# EAGLE library part XS1-L01A-TQ128 (library xmos)
XCORE Processor
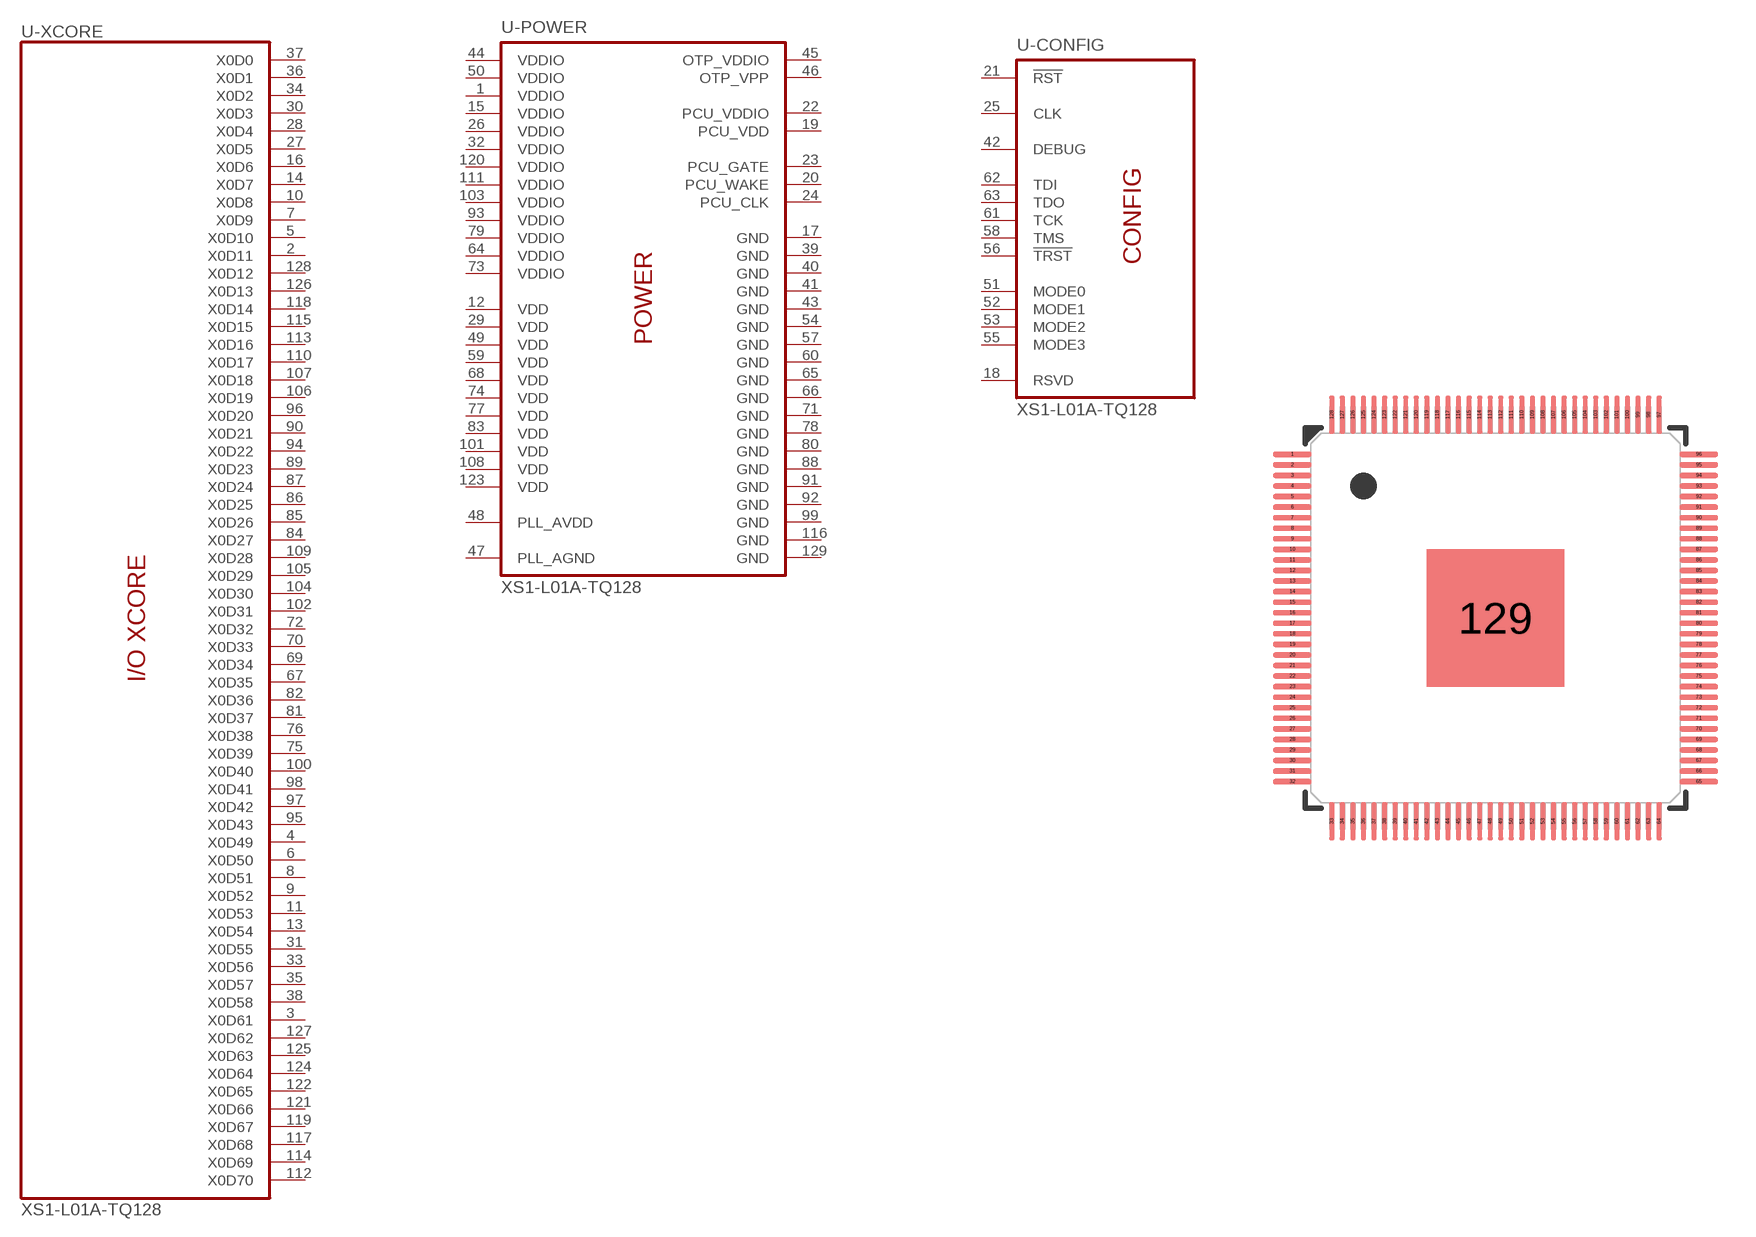
[diagram p3: symbol with the pads of TQFP128; footprint TQFP128]

Designator prefix U; gates -CONFIG=XS1-L01A-TQ128-CONFIG -POWER=XS1-L01A-TQ128-POWER -XCORE=XS1-L01A-TQ128-XCORE-IO

## XS1-L01A-TQ128  [TQFP128]
1  -POWER:VDDIO  pas
2  -XCORE:X0D11  pas
3  -XCORE:X0D61  pas
4  -XCORE:X0D49  pas
5  -XCORE:X0D10  pas
6  -XCORE:X0D50  pas
7  -XCORE:X0D9  pas
8  -XCORE:X0D51  pas
9  -XCORE:X0D52  pas
10  -XCORE:X0D8  pas
11  -XCORE:X0D53  pas
12  -POWER:VDD  pas
13  -XCORE:X0D54  pas
14  -XCORE:X0D7  pas
15  -POWER:VDDIO  pas
16  -XCORE:X0D6  pas
17  -POWER:GND  pas
18  -CONFIG:RSVD  pas
19  -POWER:PCU_VDD  pas
20  -POWER:PCU_WAKE  pas
21  -CONFIG:!RST!  pas
22  -POWER:PCU_VDDIO  pas
23  -POWER:PCU_GATE  pas
24  -POWER:PCU_CLK  pas
25  -CONFIG:CLK  pas
26  -POWER:VDDIO  pas
27  -XCORE:X0D5  pas
28  -XCORE:X0D4  pas
29  -POWER:VDD  pas
30  -XCORE:X0D3  pas
31  -XCORE:X0D55  pas
32  -POWER:VDDIO  pas
33  -XCORE:X0D56  pas
34  -XCORE:X0D2  pas
35  -XCORE:X0D57  pas
36  -XCORE:X0D1  pas
37  -XCORE:X0D0  pas
38  -XCORE:X0D58  pas
39  -POWER:GND  pas
40  -POWER:GND  pas
41  -POWER:GND  pas
42  -CONFIG:DEBUG  pas
43  -POWER:GND  pas
44  -POWER:VDDIO  pas
45  -POWER:OTP_VDDIO  pas
46  -POWER:OTP_VPP  pas
47  -POWER:PLL_AGND  pas
48  -POWER:PLL_AVDD  pas
49  -POWER:VDD  pas
50  -POWER:VDDIO  pas
51  -CONFIG:MODE0  pas
52  -CONFIG:MODE1  pas
53  -CONFIG:MODE2  pas
54  -POWER:GND  pas
55  -CONFIG:MODE3  pas
56  -CONFIG:!TRST!  pas
57  -POWER:GND  pas
58  -CONFIG:TMS  pas
59  -POWER:VDD  pas
60  -POWER:GND  pas
61  -CONFIG:TCK  pas
62  -CONFIG:TDI  pas
63  -CONFIG:TDO  pas
64  -POWER:VDDIO  pas
65  -POWER:GND  pas
66  -POWER:GND  pas
67  -XCORE:X0D35  pas
68  -POWER:VDD  pas
69  -XCORE:X0D34  pas
70  -XCORE:X0D33  pas
71  -POWER:GND  pas
72  -XCORE:X0D32  pas
73  -POWER:VDDIO  pas
74  -POWER:VDD  pas
75  -XCORE:X0D39  pas
76  -XCORE:X0D38  pas
77  -POWER:VDD  pas
78  -POWER:GND  pas
79  -POWER:VDDIO  pas
80  -POWER:GND  pas
81  -XCORE:X0D37  pas
82  -XCORE:X0D36  pas
83  -POWER:VDD  pas
84  -XCORE:X0D27  pas
85  -XCORE:X0D26  pas
86  -XCORE:X0D25  pas
87  -XCORE:X0D24  pas
88  -POWER:GND  pas
89  -XCORE:X0D23  pas
90  -XCORE:X0D21  pas
91  -POWER:GND  pas
92  -POWER:GND  pas
93  -POWER:VDDIO  pas
94  -XCORE:X0D22  pas
95  -XCORE:X0D43  pas
96  -XCORE:X0D20  pas
97  -XCORE:X0D42  pas
98  -XCORE:X0D41  pas
99  -POWER:GND  pas
100  -XCORE:X0D40  pas
101  -POWER:VDD  pas
102  -XCORE:X0D31  pas
103  -POWER:VDDIO  pas
104  -XCORE:X0D30  pas
105  -XCORE:X0D29  pas
106  -XCORE:X0D19  pas
107  -XCORE:X0D18  pas
108  -POWER:VDD  pas
109  -XCORE:X0D28  pas
110  -XCORE:X0D17  pas
111  -POWER:VDDIO  pas
112  -XCORE:X0D70  pas
113  -XCORE:X0D16  pas
114  -XCORE:X0D69  pas
115  -XCORE:X0D15  pas
116  -POWER:GND  pas
117  -XCORE:X0D68  pas
118  -XCORE:X0D14  pas
119  -XCORE:X0D67  pas
120  -POWER:VDDIO  pas
121  -XCORE:X0D66  pas
122  -XCORE:X0D65  pas
123  -POWER:VDD  pas
124  -XCORE:X0D64  pas
125  -XCORE:X0D63  pas
126  -XCORE:X0D13  pas
127  -XCORE:X0D62  pas
128  -XCORE:X0D12  pas
129  -POWER:GND  pas

## Footprint TQFP128 (pad centres in mm)
TQFP-128 body 14 x 14 mm, 0.4 mm pitch
smd 1.45 x 0.2: 1 -7.7,6.2; 2 -7.7,5.8; 3 -7.7,5.4; 4 -7.7,5; 5 -7.7,4.6; 6 -7.7,4.2; 7 -7.7,3.8; 8 -7.7,3.4; 9 -7.7,3; 10 -7.7,2.6; 11 -7.7,2.2; 12 -7.7,1.8; 13 -7.7,1.4; 14 -7.7,1; 15 -7.7,0.6; 16 -7.7,0.2; 17 -7.7,-0.2; 18 -7.7,-0.6; 19 -7.7,-1; 20 -7.7,-1.4; 21 -7.7,-1.8; 22 -7.7,-2.2; 23 -7.7,-2.6; 24 -7.7,-3; 25 -7.7,-3.4; 26 -7.7,-3.8; 27 -7.7,-4.2; 28 -7.7,-4.6; 29 -7.7,-5; 30 -7.7,-5.4; 31 -7.7,-5.8; 32 -7.7,-6.2; 65 7.7,-6.2; 66 7.7,-5.8; 67 7.7,-5.4; 68 7.7,-5; 69 7.7,-4.6; 70 7.7,-4.2; 71 7.7,-3.8; 72 7.7,-3.4; 73 7.7,-3; 74 7.7,-2.6; 75 7.7,-2.2; 76 7.7,-1.8; 77 7.7,-1.4; 78 7.7,-1; 79 7.7,-0.6; 80 7.7,-0.2; 81 7.7,0.2; 82 7.7,0.6; 83 7.7,1; 84 7.7,1.4; 85 7.7,1.8; 86 7.7,2.2; 87 7.7,2.6; 88 7.7,3; 89 7.7,3.4; 90 7.7,3.8; 91 7.7,4.2; 92 7.7,4.6; 93 7.7,5; 94 7.7,5.4; 95 7.7,5.8; 96 7.7,6.2
smd 0.2 x 1.45: 33 -6.2,-7.7; 34 -5.8,-7.7; 35 -5.4,-7.7; 36 -5,-7.7; 37 -4.6,-7.7; 38 -4.2,-7.7; 39 -3.8,-7.7; 40 -3.4,-7.7; 41 -3,-7.7; 42 -2.6,-7.7; 43 -2.2,-7.7; 44 -1.8,-7.7; 45 -1.4,-7.7; 46 -1,-7.7; 47 -0.6,-7.7; 48 -0.2,-7.7; 49 0.2,-7.7; 50 0.6,-7.7; 51 1,-7.7; 52 1.4,-7.7; 53 1.8,-7.7; 54 2.2,-7.7; 55 2.6,-7.7; 56 3,-7.7; 57 3.4,-7.7; 58 3.8,-7.7; 59 4.2,-7.7; 60 4.6,-7.7; 61 5,-7.7; 62 5.4,-7.7; 63 5.8,-7.7; 64 6.2,-7.7; 97 6.2,7.7; 98 5.8,7.7; 99 5.4,7.7; 100 5,7.7; 101 4.6,7.7; 102 4.2,7.7; 103 3.8,7.7; 104 3.4,7.7; 105 3,7.7; 106 2.6,7.7; 107 2.2,7.7; 108 1.8,7.7; 109 1.4,7.7; 110 1,7.7; 111 0.6,7.7; 112 0.2,7.7; 113 -0.2,7.7; 114 -0.6,7.7; 115 -1,7.7; 116 -1.4,7.7; 117 -1.8,7.7; 118 -2.2,7.7; 119 -2.6,7.7; 120 -3,7.7; 121 -3.4,7.7; 122 -3.8,7.7; 123 -4.2,7.7; 124 -4.6,7.7; 125 -5,7.7; 126 -5.4,7.7; 127 -5.8,7.7; 128 -6.2,7.7
smd 5.2 x 5.2: 129 0,0